# EAGLE library part ESP32_WROOM32 (library ESP32Breakout)
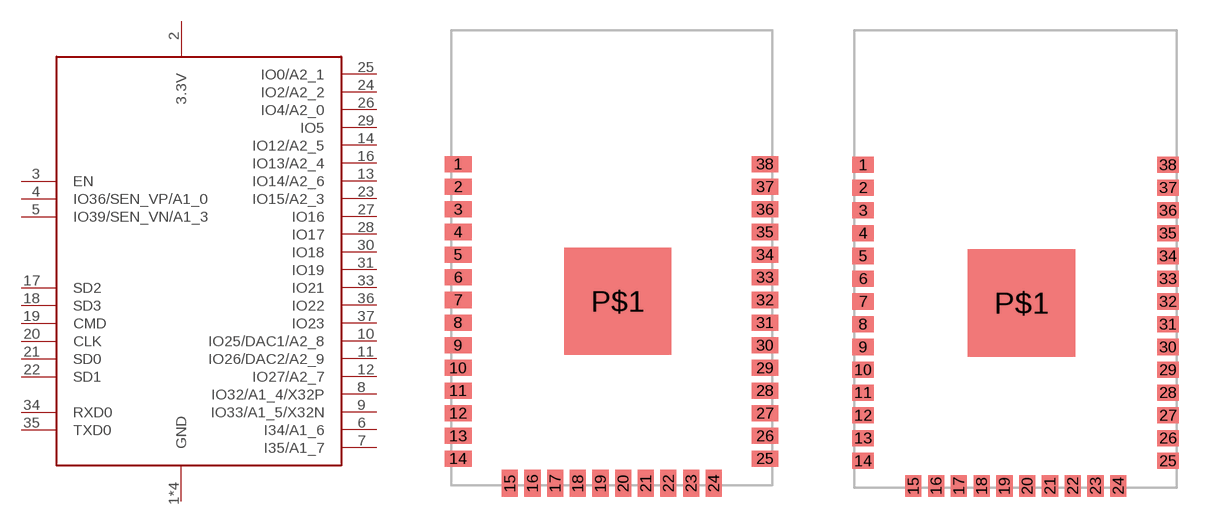
[diagram p0: symbol with the pads of WROOM32; footprints WROOM32, WROOM32_SKINNY]

Designator prefix X

## ESP32_WROOM32  [WROOM32]
1  GND  pas
2  3.3V  pas
3  EN  in
4  IO36/SEN_VP/A1_0  pas
5  IO39/SEN_VN/A1_3  pas
6  I34/A1_6
7  I35/A1_7
8  IO32/A1_4/X32P
9  IO33/A1_5/X32N
10  IO25/DAC1/A2_8
11  IO26/DAC2/A2_9
12  IO27/A2_7
13  IO14/A2_6
14  IO12/A2_5
15  GND  pas
16  IO13/A2_4
17  SD2
18  SD3
19  CMD
20  CLK
21  SD0
22  SD1
23  IO15/A2_3
24  IO2/A2_2
25  IO0/A2_1
26  IO4/A2_0
27  IO16
28  IO17
29  IO5
30  IO18
31  IO19
33  IO21
34  RXD0  in
35  TXD0  out
36  IO22
37  IO23
38  GND  pas
P$1  GND  pas

## ESP32_WROOM32_SKINNY  [WROOM32_SKINNY]
Pads as for WROOM32

## Footprint WROOM32 (pad centres in mm)
smd 1.5 x 0.9: 1 -8.6,5; 2 -8.6,3.73; 3 -8.6,2.46; 4 -8.6,1.19; 5 -8.6,-0.08; 6 -8.6,-1.35; 7 -8.6,-2.62; 8 -8.6,-3.89; 9 -8.6,-5.16; 10 -8.6,-6.43; 11 -8.6,-7.7; 12 -8.6,-8.97; 13 -8.6,-10.24; 14 -8.6,-11.51; 25 8.6,-11.51; 26 8.6,-10.24; 27 8.6,-8.97; 28 8.6,-7.7; 29 8.6,-6.43; 30 8.6,-5.16; 31 8.6,-3.89; 32 8.6,-2.62; 33 8.6,-1.35; 34 8.6,-0.08; 35 8.6,1.19; 36 8.6,2.46; 37 8.6,3.73; 38 8.6,5
smd 0.9 x 1.5: 15 -5.7,-12.9; 16 -4.43,-12.9; 17 -3.16,-12.9; 18 -1.89,-12.9; 19 -0.62,-12.9; 20 0.65,-12.9; 21 1.92,-12.9; 22 3.19,-12.9; 23 4.46,-12.9; 24 5.73,-12.9
smd 6 x 6: P$1 0.34,-2.7

## Footprint WROOM32_SKINNY (pad centres in mm)
smd 1.2 x 0.9: 1 -8.5,5; 2 -8.5,3.73; 3 -8.5,2.46; 4 -8.5,1.19; 5 -8.5,-0.08; 6 -8.5,-1.35; 7 -8.5,-2.62; 8 -8.5,-3.89; 9 -8.5,-5.16; 10 -8.5,-6.43; 11 -8.5,-7.7; 12 -8.5,-8.97; 13 -8.5,-10.24; 14 -8.5,-11.51; 25 8.5,-11.51; 26 8.5,-10.24; 27 8.5,-8.97; 28 8.5,-7.7; 29 8.5,-6.43; 30 8.5,-5.16; 31 8.5,-3.89; 32 8.5,-2.62; 33 8.5,-1.35; 34 8.5,-0.08; 35 8.5,1.19; 36 8.5,2.46; 37 8.5,3.73; 38 8.5,5
smd 0.9 x 1.2: 15 -5.7,-12.9; 16 -4.43,-12.9; 17 -3.16,-12.9; 18 -1.89,-12.9; 19 -0.62,-12.9; 20 0.65,-12.9; 21 1.92,-12.9; 22 3.19,-12.9; 23 4.46,-12.9; 24 5.73,-12.9
smd 6 x 6: P$1 0.34,-2.7